# Altium footprint library Altium_Bridge.PcbLib: 8 footprints
Each footprint in its own frame and in the unit in brackets; x right, y up, seen from the top. Pads: shape width x height; smd on the part's side, far side on the other; paste and mask are expansions set on the pad; w line width, h text height; cw(c..) or ccw(c..) is an arc to the next point about the centre after c.
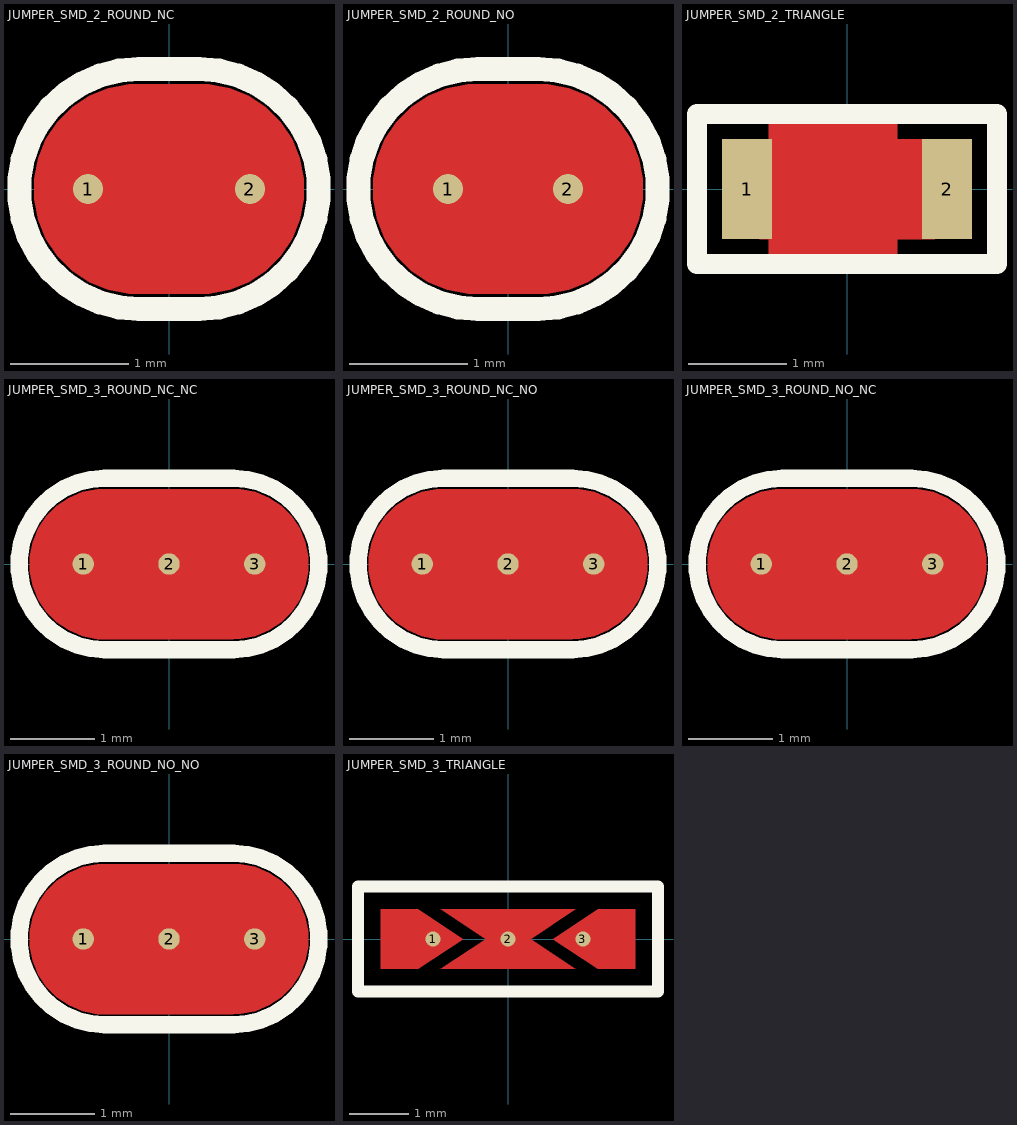
[diagram p0: the footprints below, top view; thin cyan lines are the x and y axes]

## JUMPER_SMD_2_ROUND_NC [mil]
pads (2):
  round 10 smd mask+0: 1(-27,0) 2(27,0)
Top Layer:
  rectangle: -13,-4 13,4
  region: -10,25 -10,-25 -10.7,-25 -12.1,-24.92 -13.5,-24.76 -14.88,-24.53 -16.25,-24.22 -17.59,-23.83 -18.92,-23.37 -20.21,-22.83 -21.48,-22.22 -22.71,-21.54 -23.89,-20.8 -25.04,-19.98 -26.14,-19.11 -27.18,-18.17 -28.17,-17.18 -29.11,-16.14 -29.98,-15.04 -30.79,-13.9 -31.54,-12.71 -32.22,-11.48 -32.83,-10.22 -33.37,-8.92 -33.83,-7.6 -34.22,-6.25 -34.53,-4.88 -34.76,-3.5 -34.92,-2.1 -35,-0.7 -35,0 -35,0.7 -34.92,2.1 -34.76,3.5 -34.53,4.88 -34.22,6.25 -33.83,7.59 -33.37,8.92 -32.83,10.21 -32.22,11.48 -31.54,12.71 -30.8,13.89 -29.98,15.04 -29.11,16.13 -28.17,17.18 -27.18,18.17 -26.14,19.11 -25.04,19.98 -23.89,20.79 -22.71,21.54 -21.48,22.22 -20.22,22.83 -18.92,23.36 -17.6,23.83 -16.25,24.22 -14.88,24.53 -13.5,24.76 -12.1,24.92 -10.7,25
  region: 10,-25 10,25 10.7,25 12.1,24.92 13.5,24.76 14.88,24.53 16.25,24.22 17.59,23.83 18.92,23.37 20.21,22.83 21.48,22.22 22.71,21.54 23.89,20.79 25.04,19.98 26.14,19.11 27.18,18.17 28.17,17.18 29.11,16.14 29.98,15.04 30.79,13.89 31.54,12.71 32.22,11.48 32.83,10.21 33.37,8.92 33.83,7.59 34.22,6.25 34.53,4.88 34.76,3.5 34.92,2.1 35,0.7 35,0 35,-0.7 34.92,-2.1 34.76,-3.5 34.53,-4.88 34.22,-6.25 33.83,-7.59 33.37,-8.92 32.83,-10.22 32.22,-11.48 31.54,-12.71 30.79,-13.89 29.98,-15.04 29.11,-16.14 28.17,-17.18 27.18,-18.17 26.14,-19.11 25.04,-19.98 23.89,-20.8 22.71,-21.54 21.48,-22.22 20.21,-22.83 18.92,-23.37 17.59,-23.83 16.25,-24.22 14.88,-24.53 13.5,-24.76 12.1,-24.92 10.7,-25
  pour cut-out: 10,35 13.45,35 20.21,33.65 26.58,31.02 32.31,27.19 37.19,22.31 41.02,16.58 43.65,10.21 45,3.45 45,0 45,-3.45 43.65,-10.21 41.02,-16.58 37.19,-22.31 32.31,-27.19 26.58,-31.02 20.21,-33.65 13.45,-35 10,-35 -10,-35 -13.45,-35 -20.21,-33.65 -26.58,-31.02 -32.31,-27.19 -37.19,-22.31 -41.02,-16.58 -43.65,-10.21 -45,-3.45 -45,0 -45,3.45 -43.65,10.21 -41.02,16.58 -37.19,22.31 -32.31,27.19 -26.58,31.02 -20.21,33.65 -13.45,35 -10,35
Top Overlay:
  lines w8: -10,-40 cw(c-10,0) -10,40 10,40 cw(c10,0) 10,-40 -10,-40
Top Solder:
  region: -10,-30 -12.95,-30 -18.75,-28.85 -24.21,-26.59 -29.12,-23.3 -33.3,-19.12 -36.59,-14.21 -38.85,-8.75 -40,-2.95 -40,0 -40,2.95 -38.85,8.75 -36.59,14.21 -33.3,19.12 -29.12,23.3 -24.21,26.59 -18.75,28.85 -12.95,30 -10,30 10,30 12.95,30 18.75,28.85 24.21,26.59 29.12,23.3 33.3,19.12 36.59,14.21 38.85,8.75 40,2.95 40,0 40,-2.95 38.85,-8.75 36.59,-14.21 33.3,-19.12 29.12,-23.3 24.21,-26.59 18.75,-28.85 12.95,-30 10,-30

## JUMPER_SMD_2_ROUND_NO [mil]
pads (2):
  round 10 smd mask+0: 1(-20,0) 2(20,0)
Top Layer:
  region: 10,-20 10,20 13.98,20 21.33,16.96 26.96,11.33 30,3.98 30,0 30,-3.98 26.96,-11.33 21.33,-16.96 13.98,-20
  region: -10,20 -10,-20 -13.98,-20 -21.33,-16.96 -26.96,-11.33 -30,-3.98 -30,0 -30,3.98 -26.96,11.33 -21.33,16.96 -13.98,20
  pour cut-out: 10,35 13.45,35 20.21,33.65 26.58,31.02 32.31,27.19 37.19,22.31 41.02,16.58 43.65,10.21 45,3.45 45,0 45,-3.45 43.65,-10.21 41.02,-16.58 37.19,-22.31 32.31,-27.19 26.58,-31.02 20.21,-33.65 13.45,-35 10,-35 -10,-35 -13.45,-35 -20.21,-33.65 -26.58,-31.02 -32.31,-27.19 -37.19,-22.31 -41.02,-16.58 -43.65,-10.21 -45,-3.45 -45,0 -45,3.45 -43.65,10.21 -41.02,16.58 -37.19,22.31 -32.31,27.19 -26.58,31.02 -20.21,33.65 -13.45,35 -10,35
  lines w10: -20,0 -10,0 ; 10,0 20,0 ; -10,-20 cw(c-10,0) -10,20 -10,-20 ; 10,-20 ccw(c10,0) 10,20 10,-20
Top Overlay:
  lines w8: -10,-40 cw(c-10,0) -10,40 10,40 cw(c10,0) 10,-40 -10,-40
Top Solder:
  region: -10,-30 -12.95,-30 -18.75,-28.85 -24.21,-26.59 -29.12,-23.3 -33.3,-19.12 -36.59,-14.21 -38.85,-8.75 -40,-2.95 -40,0 -40,2.95 -38.85,8.75 -36.59,14.21 -33.3,19.12 -29.12,23.3 -24.21,26.59 -18.75,28.85 -12.95,30 -10,30 10,30 12.95,30 18.75,28.85 24.21,26.59 29.12,23.3 33.3,19.12 36.59,14.21 38.85,8.75 40,2.95 40,0 40,-2.95 38.85,-8.75 36.59,-14.21 33.3,-19.12 29.12,-23.3 24.21,-26.59 18.75,-28.85 12.95,-30 10,-30

## JUMPER_SMD_2_TRIANGLE [mil]
pads (2):
  rect 20x40 smd mask+0: 1(-40,0) 2(40,0)
Top Layer:
  pour cut-out: -31.25,30 20,30 20,-30 -31.25,-30
  region: -35,-20 -35,20 -27.5,20 2.5,0 -27.5,-20
  region: -15,20 15,0 -15,-20 35,-20 35,20
Top Overlay:
  lines w8: -60,-30 60,-30 60,30 -60,30 -60,-30
Top Solder:
  region: -53,23 53,23 53,-23 -53,-23

## JUMPER_SMD_3_ROUND_NC_NC [mil]
pads (3):
  round 10 smd mask+0: 1(-40,0) 2(0,0) 3(40,0)
Top Layer:
  region: 30,-20 30,20 33.98,20 41.33,16.96 46.96,11.33 50,3.98 50,0 50,-3.98 46.96,-11.33 41.33,-16.96 33.98,-20
  region: -30,20 -30,-20 -33.98,-20 -41.33,-16.96 -46.96,-11.33 -50,-3.98 -50,0 -50,3.98 -46.96,11.33 -41.33,16.96 -33.98,20
  region: -10,20 10,20 10,-20 -10,-20
  pour cut-out: 30,35 33.45,35 40.21,33.65 46.58,31.02 52.31,27.19 57.19,22.31 61.02,16.58 63.65,10.21 65,3.45 65,0 65,-3.45 63.65,-10.21 61.02,-16.58 57.19,-22.31 52.31,-27.19 46.58,-31.02 40.21,-33.65 33.45,-35 30,-35 -30,-35 -33.45,-35 -40.21,-33.65 -46.58,-31.02 -52.31,-27.19 -57.19,-22.31 -61.02,-16.58 -63.65,-10.21 -65,-3.45 -65,0 -65,3.45 -63.65,10.21 -61.02,16.58 -57.19,22.31 -52.31,27.19 -46.58,31.02 -40.21,33.65 -33.45,35 -30,35
  lines w5: -30,0 -10,0 ; 10,0 30,0
  lines w10: -30,-20 cw(c-30,0) -30,20 -30,-20 ; -10,-20 -10,20 10,20 10,-20 -10,-20 ; 30,-20 ccw(c30,0) 30,20 30,-20
Top Overlay:
  lines w8: -30,-40 cw(c-30,0) -30,40 30,40 cw(c30,0) 30,-40 -30,-40
Top Solder:
  region: -30,-30 -32.95,-30 -38.75,-28.85 -44.21,-26.59 -49.12,-23.3 -53.3,-19.12 -56.59,-14.21 -58.85,-8.75 -60,-2.96 -60,0 -60,2.95 -58.85,8.75 -56.59,14.21 -53.3,19.12 -49.12,23.3 -44.21,26.58 -38.75,28.85 -32.96,30 -30,30 30,30 32.95,30 38.75,28.85 44.21,26.59 49.12,23.3 53.3,19.12 56.59,14.21 58.85,8.75 60,2.95 60,0 60,-2.96 58.85,-8.75 56.59,-14.21 53.3,-19.13 49.13,-23.3 44.21,-26.59 38.75,-28.85 32.95,-30 30,-30

## JUMPER_SMD_3_ROUND_NC_NO [mil]
pads (3):
  round 10 smd mask+0: 1(-40,0) 2(0,0) 3(40,0)
Top Layer:
  pour cut-out: 30,35 33.45,35 40.21,33.65 46.58,31.02 52.31,27.19 57.19,22.31 61.02,16.58 63.65,10.21 65,3.45 65,0 65,-3.45 63.65,-10.21 61.02,-16.58 57.19,-22.31 52.31,-27.19 46.58,-31.02 40.21,-33.65 33.45,-35 30,-35 -30,-35 -33.45,-35 -40.21,-33.65 -46.58,-31.02 -52.31,-27.19 -57.19,-22.31 -61.02,-16.58 -63.65,-10.21 -65,-3.45 -65,0 -65,3.45 -63.65,10.21 -61.02,16.58 -57.19,22.31 -52.31,27.19 -46.58,31.02 -40.21,33.65 -33.45,35 -30,35
  region: 30,-20 30,20 33.98,20 41.33,16.96 46.96,11.33 50,3.98 50,0 50,-3.98 46.96,-11.33 41.33,-16.96 33.98,-20
  region: -30,20 -30,-20 -33.98,-20 -41.33,-16.96 -46.96,-11.33 -50,-3.98 -50,0 -50,3.98 -46.96,11.33 -41.33,16.96 -33.98,20
  region: -10,20 10,20 10,-20 -10,-20
  lines w5: -30,0 -10,0
  lines w10: -30,-20 cw(c-30,0) -30,20 -30,-20 ; -10,-20 -10,20 10,20 10,-20 -10,-20 ; 30,-20 ccw(c30,0) 30,20 30,-20
Top Overlay:
  lines w8: -30,-40 cw(c-30,0) -30,40 30,40 cw(c30,0) 30,-40 -30,-40
Top Solder:
  region: -30,-30 -32.95,-30 -38.75,-28.85 -44.21,-26.59 -49.12,-23.3 -53.3,-19.12 -56.59,-14.21 -58.85,-8.75 -60,-2.96 -60,0 -60,2.95 -58.85,8.75 -56.59,14.21 -53.3,19.12 -49.12,23.3 -44.21,26.58 -38.75,28.85 -32.96,30 -30,30 30,30 32.95,30 38.75,28.85 44.21,26.59 49.12,23.3 53.3,19.12 56.59,14.21 58.85,8.75 60,2.95 60,0 60,-2.96 58.85,-8.75 56.59,-14.21 53.3,-19.13 49.13,-23.3 44.21,-26.59 38.75,-28.85 32.95,-30 30,-30

## JUMPER_SMD_3_ROUND_NO_NC [mil]
pads (3):
  round 10 smd mask+0: 1(-40,0) 2(0,0) 3(40,0)
Top Layer:
  pour cut-out: 30,35 33.45,35 40.21,33.65 46.58,31.02 52.31,27.19 57.19,22.31 61.02,16.58 63.65,10.21 65,3.45 65,0 65,-3.45 63.65,-10.21 61.02,-16.58 57.19,-22.31 52.31,-27.19 46.58,-31.02 40.21,-33.65 33.45,-35 30,-35 -30,-35 -33.45,-35 -40.21,-33.65 -46.58,-31.02 -52.31,-27.19 -57.19,-22.31 -61.02,-16.58 -63.65,-10.21 -65,-3.45 -65,0 -65,3.45 -63.65,10.21 -61.02,16.58 -57.19,22.31 -52.31,27.19 -46.58,31.02 -40.21,33.65 -33.45,35 -30,35
  region: 30,-20 30,20 33.98,20 41.33,16.96 46.96,11.33 50,3.98 50,0 50,-3.98 46.96,-11.33 41.33,-16.96 33.98,-20
  region: -30,20 -30,-20 -33.98,-20 -41.33,-16.96 -46.96,-11.33 -50,-3.98 -50,0 -50,3.98 -46.96,11.33 -41.33,16.96 -33.98,20
  region: -10,20 10,20 10,-20 -10,-20
  lines w5: 10,0 30,0
  lines w10: -30,-20 cw(c-30,0) -30,20 -30,-20 ; -10,-20 -10,20 10,20 10,-20 -10,-20 ; 30,-20 ccw(c30,0) 30,20 30,-20
Top Overlay:
  lines w8: -30,-40 cw(c-30,0) -30,40 30,40 cw(c30,0) 30,-40 -30,-40
Top Solder:
  region: -30,-30 -32.95,-30 -38.75,-28.85 -44.21,-26.59 -49.12,-23.3 -53.3,-19.12 -56.59,-14.21 -58.85,-8.75 -60,-2.96 -60,0 -60,2.95 -58.85,8.75 -56.59,14.21 -53.3,19.12 -49.12,23.3 -44.21,26.58 -38.75,28.85 -32.96,30 -30,30 30,30 32.95,30 38.75,28.85 44.21,26.59 49.12,23.3 53.3,19.12 56.59,14.21 58.85,8.75 60,2.95 60,0 60,-2.96 58.85,-8.75 56.59,-14.21 53.3,-19.13 49.13,-23.3 44.21,-26.59 38.75,-28.85 32.95,-30 30,-30

## JUMPER_SMD_3_ROUND_NO_NO [mil]
pads (3):
  round 10 smd mask+0: 1(-40,0) 2(0,0) 3(40,0)
Top Layer:
  pour cut-out: 30,35 33.45,35 40.21,33.65 46.58,31.02 52.31,27.19 57.19,22.31 61.02,16.58 63.65,10.21 65,3.45 65,0 65,-3.45 63.65,-10.21 61.02,-16.58 57.19,-22.31 52.31,-27.19 46.58,-31.02 40.21,-33.65 33.45,-35 30,-35 -30,-35 -33.45,-35 -40.21,-33.65 -46.58,-31.02 -52.31,-27.19 -57.19,-22.31 -61.02,-16.58 -63.65,-10.21 -65,-3.45 -65,0 -65,3.45 -63.65,10.21 -61.02,16.58 -57.19,22.31 -52.31,27.19 -46.58,31.02 -40.21,33.65 -33.45,35 -30,35
  region: -10,20 10,20 10,-20 -10,-20
  region: -30,20 -30,-20 -33.98,-20 -41.33,-16.96 -46.96,-11.33 -50,-3.98 -50,0 -50,3.98 -46.96,11.33 -41.33,16.96 -33.98,20
  region: 30,-20 30,20 33.98,20 41.33,16.96 46.96,11.33 50,3.98 50,0 50,-3.98 46.96,-11.33 41.33,-16.96 33.98,-20
  lines w10: -30,-20 cw(c-30,0) -30,20 -30,-20 ; -10,-20 10,-20 10,20 -10,20 -10,-20 ; 30,-20 ccw(c30,0) 30,20 30,-20
Top Overlay:
  lines w8: -30,-40 cw(c-30,0) -30,40 30,40 cw(c30,0) 30,-40 -30,-40
Top Solder:
  region: -30,-30 -32.95,-30 -38.75,-28.85 -44.21,-26.59 -49.12,-23.3 -53.3,-19.12 -56.59,-14.21 -58.85,-8.75 -60,-2.96 -60,0 -60,2.95 -58.85,8.75 -56.59,14.21 -53.3,19.12 -49.12,23.3 -44.21,26.58 -38.75,28.85 -32.96,30 -30,30 30,30 32.95,30 38.75,28.85 44.21,26.59 49.12,23.3 53.3,19.12 56.59,14.21 58.85,8.75 60,2.95 60,0 60,-2.96 58.85,-8.75 56.59,-14.21 53.3,-19.13 49.13,-23.3 44.21,-26.59 38.75,-28.85 32.95,-30 30,-30

## JUMPER_SMD_3_TRIANGLE [mil]
pads (3):
  round 10 smd mask+0: 1(-50,0) 2(0,0) 3(50,0)
Top Layer:
  region: -85,-20 -85,20 -60,20 -30,0 -60,-20
  region: 85,20 85,-20 60,-20 30,0 60,20
  region: 45,-20 15,0 45,20 -5,20 -5,-20
  region: -45,20 -15,0 -45,-20 5,-20 5,20
Top Overlay:
  lines w8: -100,-35 -100,35 100,35 100,-35 -100,-35
Top Solder:
  region: 5,25 90,25 90,-25 5,-25
  region: -90,25 -5,25 -5,-25 -90,-25